# Altium schematic symbol library 电源管理IC.SchLib: 5 symbols
Pins are listed as number, name and electrical type; pins without a type are passive.

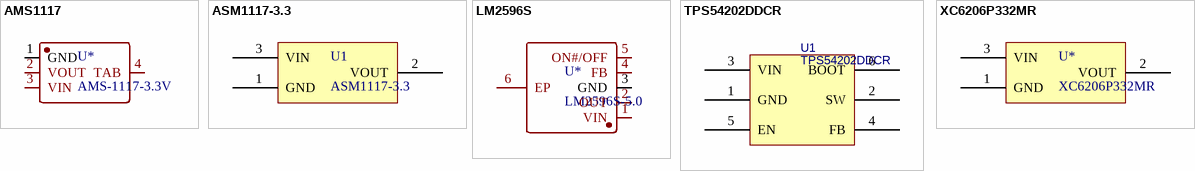
[diagram p0: symbols AMS1117 to XC6206P332MR]

## AMS1117
designator U*, comment AMS-1117-3.3V
降压1.2V-5V
footprint SOT223
pins: 1 GND, 2 VOUT, 3 VIN, 4 TAB

## ASM1117-3.3
designator U1
SOT-89封装
footprint SOT-89
pins: 1 GND, 2 VOUT, 3 VIN

## LM2596S
designator U*, comment LM2596S-5.0
降压3.3V-12V
footprint T0263
pins: 1 VIN, 2 OUT, 3 GND, 4 FB, 5 ON#/OFF, 6 EP

## TPS54202DDCR
designator U1
BOM_Manufacturer: Texas Instruments; Contributor: LCSC; BOM_Supplier: LCSC; BOM_Supplier Part: C191884; BOM_Manufacturer Part: TPS54202DDCR; BOM_JLCPCB Part Class: Extended Part; spicePre: U; spiceSymbolName: TPS54202DDCR
footprint SOT23-6L
pins: 1 GND, 2 SW, 3 VIN, 4 FB, 5 EN, 6 BOOT

## XC6206P332MR
designator U*
footprint SOT23
pins: 1 GND, 2 VOUT, 3 VIN